# Altium integrated library Texas Instruments Interface 1394.IntLib: 47 symbols (part 12 of 17)
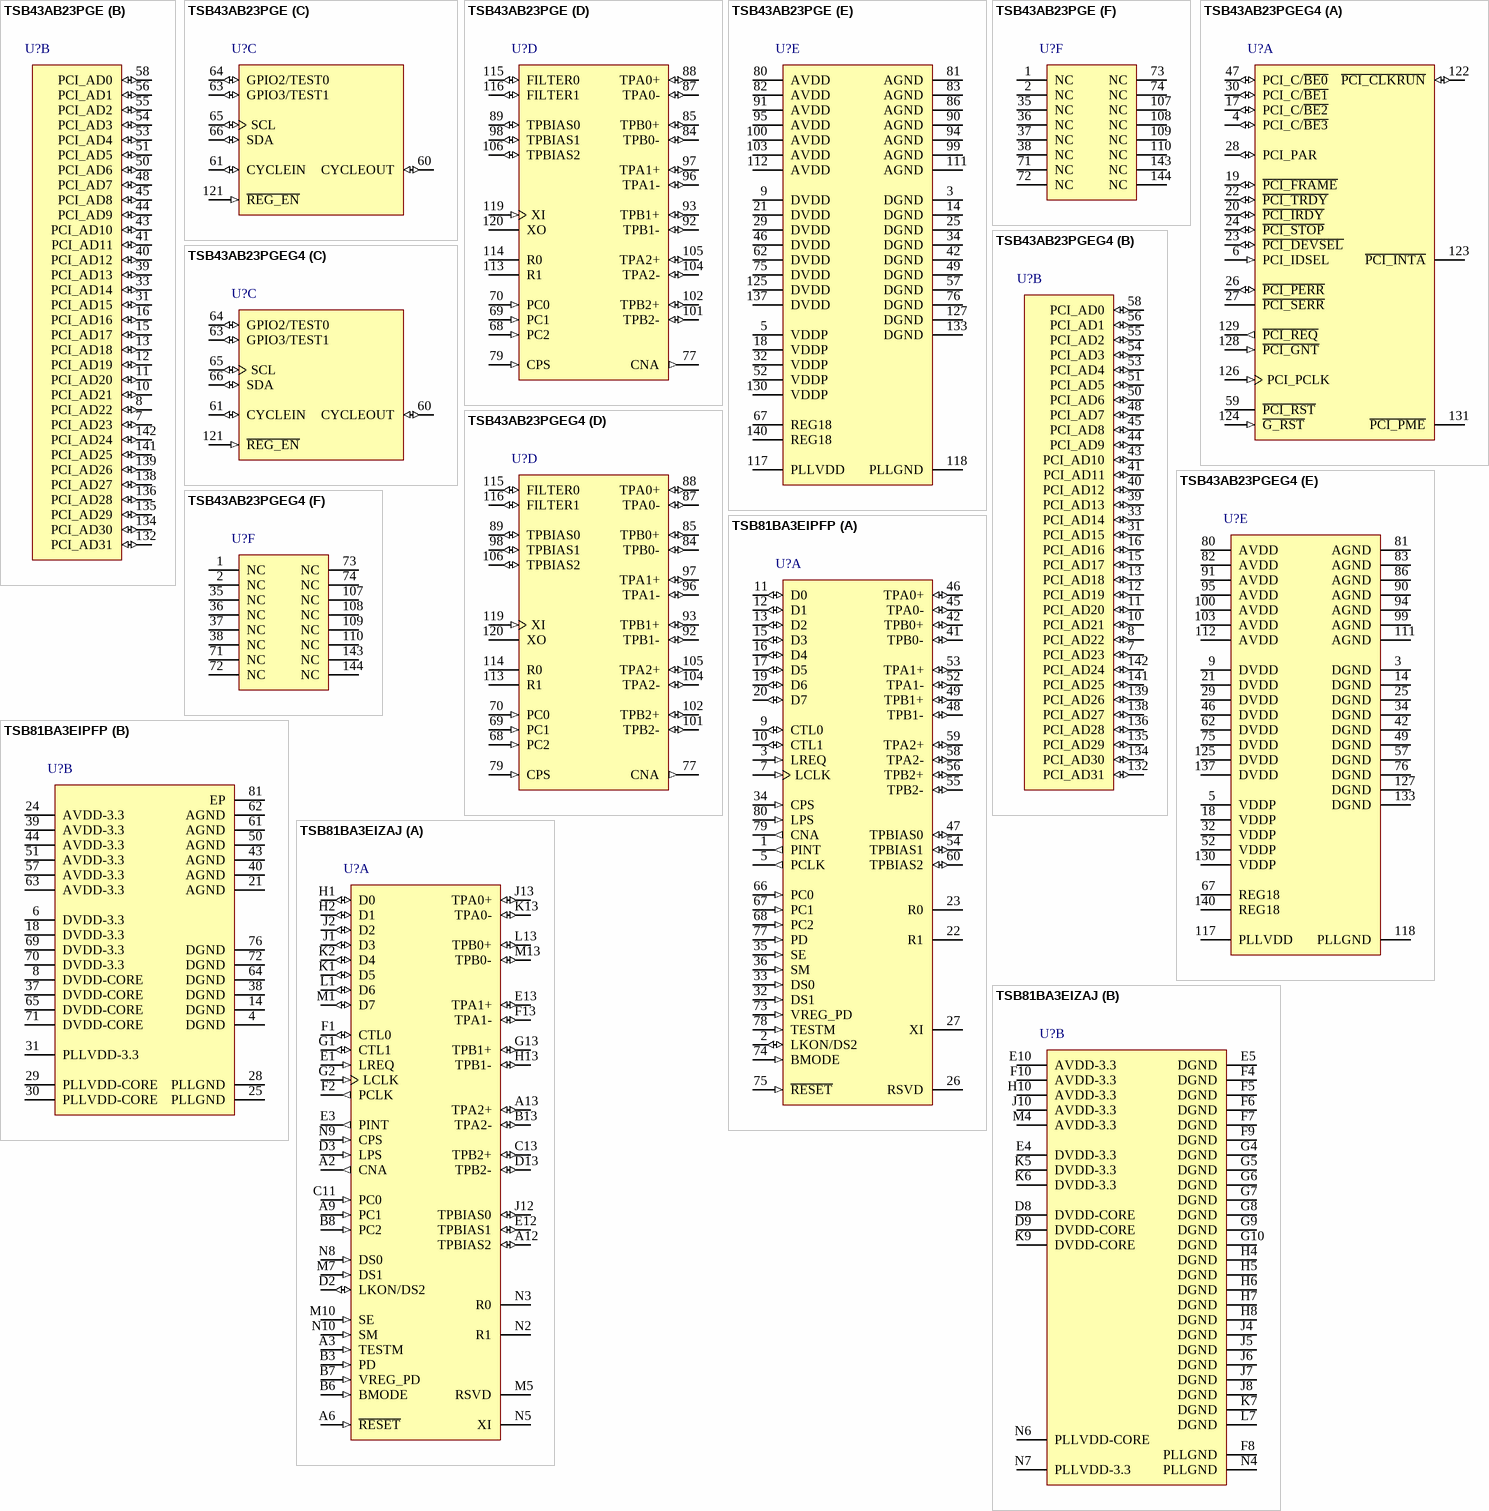
[diagram p22: symbols TSB43AB23PGE to TSB81BA3EIZAJ]

## TSB81BA3EIPFP
designator U?
800 Mbps IEEE P1394b Three-Port Cable Transceiver Arbiter, 1.8 / 3.3V, -40 to 85 degC, 80-Pin HTQFP (PFP), Green (RoHS & no Sb/Br); PartNumber: TSB81BA3EIPFP; Manufacturer: Texas Instruments; SubFamily: 1394 Physical Layer Controller; Speed(Max)(Mbps): 800; Ports: 3; Supply Voltage(s)(V): 1.8, 3.3; 1394: True; Rating: Catalog; DatasheetVersion: SLLS783A; PackageVersion: revC, Jul-2011; PackageReference: PFP80-5450X5450TP; PackageDescription: 80-Pin Plastic Quad Flat Pack PowerPAD; Mounting Technology: Surface Mount; Eco-Plan: Green (RoHS & no Sb/Br); 1394b: True; Code_JEDEC: MS-026; ComponentLink1Description: Datasheet; ComponentLink1URL: http://www.ti.com/general/docs/lit/getliterature.tsp?genericPartNumber=TSB81BA3E&fileType=pdf; ComponentLink2Description: Package Specification; ComponentLink2URL: http://www.ti.com/lit/ml/mpqf049b/mpqf049b.pdf
footprint PFP80-5450X5450TP_N (Thin QFP, 80-Leads, Body 12x12mm, Pitch 0.5mm, IPC Medium Density)
footprint PFP80-5450X5450TP_L (Thin QFP, 80-Leads, Body 12x12mm, Pitch 0.5mm, IPC High Density)
footprint PFP80-5450X5450TP_M (Thin QFP, 80-Leads, Body 12x12mm, Pitch 0.5mm, IPC Low Density)
part A pins: 1 PINT (out) "PHY interrupt. The PHY uses this output to serially transfer status and interrupt information to the link when PHY-link interface is in the 1394b mode. [see datasheet]", 2 LKON/DS2 (io) "Link-on output/Data-strobe-only input for port 2. [see datasheet]", 3 LREQ (in) "LLC request input. The LLC uses this input to initiate a service request to the TSB81BA3E. A bus holder is built into this terminal.", 5 PCLK (out) "PHY clock. Provides a 98.304-MHz clock signal, synchronized with data transfers, to the LLC when the PHY-link interface is operating in the 1394b mode (BMODE asserted). [see datasheet]", 7 LCLK (in) "Link clock. Link-provided 98.304-MHz clock signal to synchronize data transfers from link to the PHY when the PHY-link interface is in the 1394b mode. [see datasheet]", 9 CTL0 (io) "Control I/Os. These bidirectional signals control communication between the TSB81BA3E and the LLC. Bus holders are built into these terminals.", 10 CTL1 (io) "Control I/Os. These bidirectional signals control communication between the TSB81BA3E and the LLC. Bus holders are built into these terminals.", 11 D0 (io) "Data I/Os. These are bidirectional data signals between the TSB82BA3 and the LLC. Bus holders are built into these terminals.", 12 D1 (io) "Data I/Os. These are bidirectional data signals between the TSB82BA3 and the LLC. Bus holders are built into these terminals.", 13 D2 (io) "Data I/Os. These are bidirectional data signals between the TSB82BA3 and the LLC. Bus holders are built into these terminals.", 15 D3 (io) "Data I/Os. These are bidirectional data signals between the TSB82BA3 and the LLC. Bus holders are built into these terminals.", 16 D4 (io) "Data I/Os. These are bidirectional data signals between the TSB82BA3 and the LLC. Bus holders are built into these terminals.", 17 D5 (io) "Data I/Os. These are bidirectional data signals between the TSB82BA3 and the LLC. Bus holders are built into these terminals.", 19 D6 (io) "Data I/Os. These are bidirectional data signals between the TSB82BA3 and the LLC. Bus holders are built into these terminals.", 20 D7 (io) "Data I/Os. These are bidirectional data signals between the TSB82BA3 and the LLC. Bus holders are built into these terminals.", 22 R1 "Current setting resistor terminals. These terminals are connected to a precision external resistance to set the internal operating currents and cable driver output currents. [see datasheet]", 23 R0 "Current setting resistor terminals. These terminals are connected to a precision external resistance to set the internal operating currents and cable driver output currents. [see datasheet]", 26 RSVD "This terminal must normally be left unconnected. When this terminal is probed, the terminal shows a 98.304-MHz signal. [see datasheet]", 27 XI "Oscillator input. This terminal connects to a 98.304-MHz low jitter external oscillator. The XI terminal is a 1.8-V CMOS input.Oscillator jitter must be 5 ps RMS or better.If only 3. [see datasheet]", 32 DS1 (in) "Data-strobe-only mode for port 1. 1394a-only port 1 enable programming terminal. [see datasheet]", 33 DS0 (in) "Data-strobe-only mode for port 0. 1394a-only port 1 enable programming terminal. [see datasheet]", 34 CPS (in) "Cable-power status input.This terminal is normally connected to cable power through a 400-kohm resistor. [see datasheet]", 35 SE (in) "Test control input. This input is used in the manufacturing test of the TSB81BA3E. [see datasheet]", 36 SM (in) "Test control input. This input is used in the manufacturing test of the TSB81BA3E. [see datasheet]", 41 TPB0- (io) "Port-0 twisted-pair differential-signal terminals. [see datasheet]", 42 TPB0+ (io) "Port-0 twisted-pair differential-signal terminals. [see datasheet]", 45 TPA0- (io) "Port-0 twisted-pair differential-signal terminals. [see datasheet]", 46 TPA0+ (io) "Port-0 twisted-pair differential-signal terminals. [see datasheet]", 47 TPBIAS0 (io) "Twisted-pair bias output and signal detect input. This provides the 1. [see datasheet]", 48 TPB1- (io) "Port-1 twisted-pair differential-signal terminals. [see datasheet]", 49 TPB1+ (io) "Port-1 twisted-pair differential-signal terminals. [see datasheet]", 52 TPA1- (io) "Port-1 twisted-pair differential-signal terminals. [see datasheet]", 53 TPA1+ (io) "Port-1 twisted-pair differential-signal terminals. [see datasheet]", 54 TPBIAS1 (io) "Twisted-pair bias output and signal detect input. This provides the 1. [see datasheet]", 55 TPB2- (io) "Port-2 twisted-pair differential-signal terminals. [see datasheet]", 56 TPB2+ (io) "Port-2 twisted-pair differential-signal terminals. [see datasheet]", 58 TPA2- (io) "Port-2 twisted-pair differential-signal terminals. [see datasheet]", 59 TPA2+ (io) "Port-2 twisted-pair differential-signal terminals. [see datasheet]", 60 TPBIAS2 (io) "Twisted-pair bias output and signal detect input. This provides the 1. [see datasheet]", 66 PC0 (in) "Power class programming inputs. On hardware reset, these inputs set the default value of the power class indicated during self-ID. [see datasheet]", 67 PC1 (in) "Power class programming inputs. On hardware reset, these inputs set the default value of the power class indicated during self-ID. [see datasheet]", 68 PC2 (in) "Power class programming inputs. On hardware reset, these inputs set the default value of the power class indicated during self-ID. [see datasheet]", 73 VREG_PD (in) "Voltage regulator power-down input. When asserted logic high, this pin will power-down the internal 3.3-V to 1.95-V regulator. For single 3. [see datasheet]", 74 BMODE (in) "Beta-mode input. This terminal determines the PHY-link interface connection protocol. [see datasheet]", 75 ~{RESET} (in) "Logic reset input. Asserting this terminal low resets the internal logic. [see datasheet]", 77 PD (in) "Power-down input. A high on this terminal turns off all internal circuitry except the cable-active monitor circuits, which control the CNA output. [see datasheet]", 78 TESTM (in) "Test control input. This input is used in the manufacturing test of the TSB81BA3E. For normal use this terminal must be pulled high through a 1-kohm resistor to VDD.", 79 CNA (out) "Cable not active output.This terminal is asserted high when there are no ports receiving incoming bias voltage. When any port receives bias, this terminal goes low.", 80 LPS (in) "Link power status input. This terminal monitors the active/power status of the link-layer controller (LLC) and controls the state of the PHY-LLC interface. [see datasheet]"
part B pins: 4 DGND (power) "Digital circuit ground terminals. These terminals must be tied together to the low-impedance circuit board ground plane.", 6 DVDD-3.3 (power) "Digital 3.3-V circuit power terminals. A combination of high-frequency decoupling capacitors near each terminal is suggested, such as paralleled 0.1 uF and 0.001 uF. [see datasheet]", 8 DVDD-CORE (power) "Digital core circuit power terminals.A combination of high-frequency decoupling capacitors near each terminal is suggested, such as paralleled 0.1uF and 0.001uF. [see datasheet]", 14 DGND (power) "Digital circuit ground terminals. These terminals must be tied together to the low-impedance circuit board ground plane.", 18 DVDD-3.3 (power) "Digital 3.3-V circuit power terminals. A combination of high-frequency decoupling capacitors near each terminal is suggested, such as paralleled 0.1 uF and 0.001 uF. [see datasheet]", 21 AGND (power) "Analog circuit ground terminals.These terminals must be tied together to the low-impedance circuit board ground plane.", 24 AVDD-3.3 (power) "Analog circuit power terminals. A combination of high-frequency decoupling capacitors near each terminal is suggested, such as paralleled 0.1 uF and 0.001 uF. [see datasheet]", 25 PLLGND (power) "PLL circuit ground terminals. These terminals must be tied together to the low-impedance circuit board ground plane.", 28 PLLGND (power) "PLL circuit ground terminals. These terminals must be tied together to the low-impedance circuit board ground plane.", 29 PLLVDD-CORE (power) "PLL core circuit power terminals. A combination of high-frequency decoupling capacitors near each terminal is suggested, such as paralleled 0.1 uF and 0.001 uF. [see datasheet]", 30 PLLVDD-CORE (power) "PLL core circuit power terminals. A combination of high-frequency decoupling capacitors near each terminal is suggested, such as paralleled 0.1 uF and 0.001 uF. [see datasheet]", 31 PLLVDD-3.3 (power) "PLL 3.3-V circuit power terminal. A combination of high-frequency decoupling capacitors near the terminal are suggested, such as paralleled 0.1uF and 0.001uF. [see datasheet]", 37 DVDD-CORE (power) "Digital core circuit power terminals.A combination of high-frequency decoupling capacitors near each terminal is suggested, such as paralleled 0.1uF and 0.001uF. [see datasheet]", 38 DGND (power) "Digital circuit ground terminals. These terminals must be tied together to the low-impedance circuit board ground plane.", 39 AVDD-3.3 (power) "Analog circuit power terminals. A combination of high-frequency decoupling capacitors near each terminal is suggested, such as paralleled 0.1 uF and 0.001 uF. [see datasheet]", 40 AGND (power) "Analog circuit ground terminals.These terminals must be tied together to the low-impedance circuit board ground plane.", 43 AGND (power) "Analog circuit ground terminals.These terminals must be tied together to the low-impedance circuit board ground plane.", 44 AVDD-3.3 (power) "Analog circuit power terminals. A combination of high-frequency decoupling capacitors near each terminal is suggested, such as paralleled 0.1 uF and 0.001 uF. [see datasheet]", 50 AGND (power) "Analog circuit ground terminals.These terminals must be tied together to the low-impedance circuit board ground plane.", 51 AVDD-3.3 (power) "Analog circuit power terminals. A combination of high-frequency decoupling capacitors near each terminal is suggested, such as paralleled 0.1 uF and 0.001 uF. [see datasheet]", 57 AVDD-3.3 (power) "Analog circuit power terminals. A combination of high-frequency decoupling capacitors near each terminal is suggested, such as paralleled 0.1 uF and 0.001 uF. [see datasheet]", 61 AGND (power) "Analog circuit ground terminals.These terminals must be tied together to the low-impedance circuit board ground plane.", 62 AGND (power) "Analog circuit ground terminals.These terminals must be tied together to the low-impedance circuit board ground plane.", 63 AVDD-3.3 (power) "Analog circuit power terminals. A combination of high-frequency decoupling capacitors near each terminal is suggested, such as paralleled 0.1 uF and 0.001 uF. [see datasheet]", 64 DGND (power) "Digital circuit ground terminals. These terminals must be tied together to the low-impedance circuit board ground plane.", 65 DVDD-CORE (power) "Digital core circuit power terminals.A combination of high-frequency decoupling capacitors near each terminal is suggested, such as paralleled 0.1uF and 0.001uF. [see datasheet]", 69 DVDD-3.3 (power) "Digital 3.3-V circuit power terminals. A combination of high-frequency decoupling capacitors near each terminal is suggested, such as paralleled 0.1 uF and 0.001 uF. [see datasheet]", 70 DVDD-3.3 (power) "Digital 3.3-V circuit power terminals. A combination of high-frequency decoupling capacitors near each terminal is suggested, such as paralleled 0.1 uF and 0.001 uF. [see datasheet]", 71 DVDD-CORE (power) "Digital core circuit power terminals.A combination of high-frequency decoupling capacitors near each terminal is suggested, such as paralleled 0.1uF and 0.001uF. [see datasheet]", 72 DGND (power) "Digital circuit ground terminals. These terminals must be tied together to the low-impedance circuit board ground plane.", 76 DGND (power) "Digital circuit ground terminals. These terminals must be tied together to the low-impedance circuit board ground plane.", 81 EP (power) "Exposed Thermal Pad"

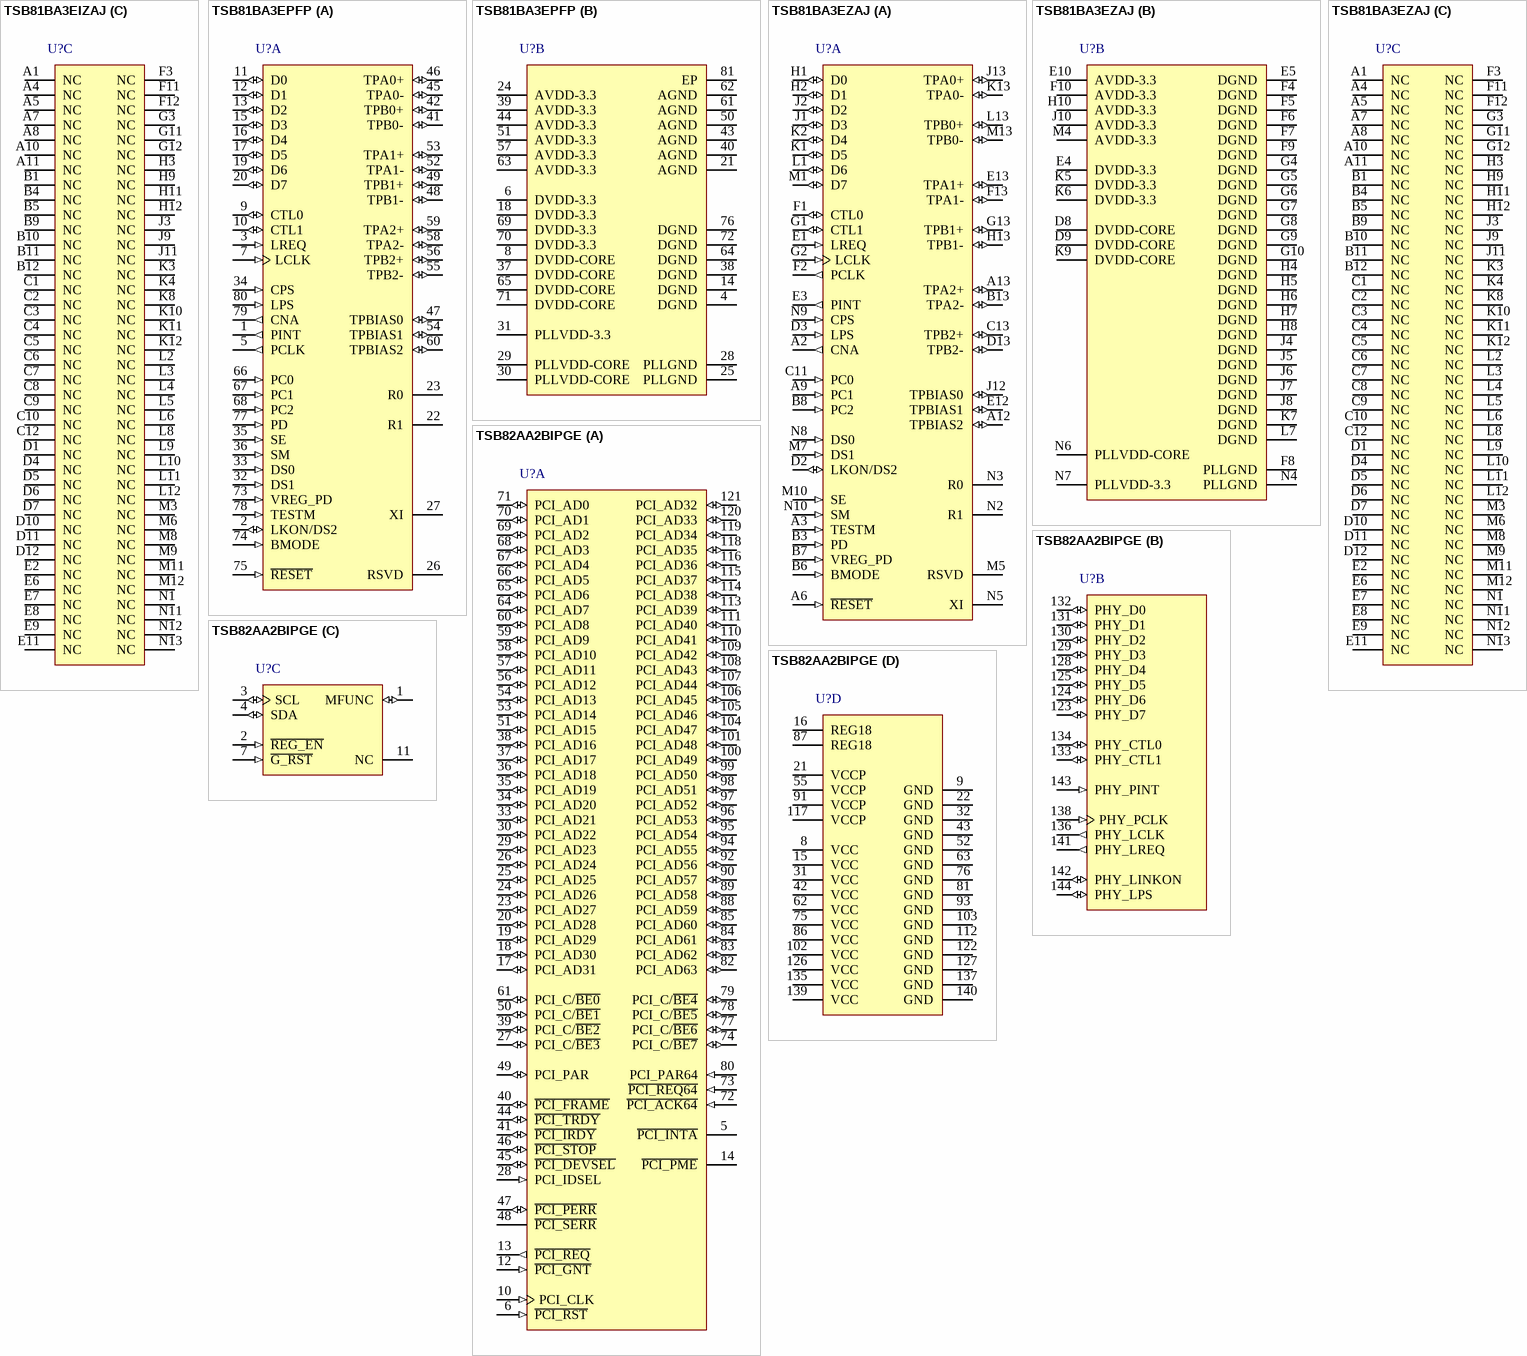
[diagram p7: symbols TSB81BA3EIZAJ to TSB82AA2BIPGE]

## TSB81BA3EIZAJ
designator U?
800 Mbps IEEE P1394b Three-Port Cable Transceiver Arbiter, 1.8 / 3.3V, -40 to 85 degC, 168-Pin NFBGA (ZAJ), Green (RoHS & no Sb/Br); PartNumber: TSB81BA3EIZAJ; Manufacturer: Texas Instruments; SubFamily: 1394 Physical Layer Controller; Speed(Max)(Mbps): 800; Ports: 3; Supply Voltage(s)(V): 1.8, 3.3; 1394: True; Rating: Catalog; DatasheetVersion: SLLS783A; PackageVersion: revD, Aug-2008; PackageReference: ZAJ168; PackageDescription: 168-Ball Plastic Ball Grid Array, 7 x 7 mm Body, 0.5 mm Pitch; Mounting Technology: Surface Mount; Eco-Plan: Green (RoHS & no Sb/Br); 1394b: True; ComponentLink1Description: Datasheet; ComponentLink1URL: http://www.ti.com/general/docs/lit/getliterature.tsp?genericPartNumber=TSB81BA3E&fileType=pdf; ComponentLink2Description: Package Specification; ComponentLink2URL: http://www.ti.com/lit/ml/mpbg233/mpbg233.pdf
footprint ZAJ168 (BGA, 168-Leads, Body 7x7mm, Pitch 0.5mm)
part A pins: A2 CNA (out) "Cable not active output.This terminal is asserted high when there are no ports receiving incoming bias voltage. When any port receives bias, this terminal goes low.", A3 TESTM (in) "Test control input. This input is used in the manufacturing test of the TSB81BA3E. For normal use this terminal must be pulled high through a 1-k ohm resistor to VDD.", A6 ~{RESET} (in) "Logic reset input. Asserting this terminal low resets the internal logic. [see datasheet]", A9 PC1 (in) "Power class programming inputs. On hardware reset, these inputs set the default value of the power class indicated during self-ID. [see datasheet]", A12 TPBIAS2 (io) "Twisted-pair bias output and signal detect input. This provides the 1. [see datasheet]", A13 TPA2+ (io) "Port-2 twisted-pair differential-signal terminals. [see datasheet]", B3 PD (in) "Power-down input. A high on this terminal turns off all internal circuitry except the cable-active monitor circuits, which control the CNA output. [see datasheet]", B6 BMODE (in) "Beta-mode input. This terminal determines the PHY-link interface connection protocol. [see datasheet]", B7 VREG_PD (in) "Voltage regulator power-down input. When asserted logic high, this pin will power-down the internal 3.3-V to 1.95-V regulator. For single 3. [see datasheet]", B8 PC2 (in) "Power class programming inputs. On hardware reset, these inputs set the default value of the power class indicated during self-ID. [see datasheet]", B13 TPA2- (io) "Port-2 twisted-pair differential-signal terminals. [see datasheet]", C11 PC0 (in) "Power class programming inputs. On hardware reset, these inputs set the default value of the power class indicated during self-ID. [see datasheet]", C13 TPB2+ (io) "Port-2 twisted-pair differential-signal terminals. [see datasheet]", D2 LKON/DS2 (io) "Link-on output/Data-strobe-only input for port 2. [see datasheet]", D3 LPS (in) "Link power status input. This terminal monitors the active/power status of the link-layer controller (LLC) and controls the state of the PHY-LLC interface. [see datasheet]", D13 TPB2- (io) "Port-2 twisted-pair differential-signal terminals. [see datasheet]", E1 LREQ (in) "LLC request input. The LLC uses this input to initiate a service request to the TSB81BA3E. A bus holder is built into this terminal.", E3 PINT (out) "PHY interrupt. The PHY uses this output to serially transfer status and interrupt information to the link when PHY-link interface is in the 1394b mode. [see datasheet]", E12 TPBIAS1 (io) "Twisted-pair bias output and signal detect input. This provides the 1. [see datasheet]", E13 TPA1+ (io) "Port-1 twisted-pair differential-signal terminals. [see datasheet]", F1 CTL0 (io) "Control I/Os. These bidirectional signals control communication between the TSB81BA3E and the LLC. Bus holders are built into these terminals.", F2 PCLK (out) "PHY clock. Provides a 98.304-MHz clock signal, synchronized with data transfers, to the LLC when the PHY-link interface is operating in the 1394b mode (BMODE asserted). [see datasheet]", F13 TPA1- (io) "Port-1 twisted-pair differential-signal terminals. [see datasheet]", G1 CTL1 (io) "Control I/Os. These bidirectional signals control communication between the TSB81BA3E and the LLC. Bus holders are built into these terminals.", G2 LCLK (in) "Link clock. Link-provided 98.304-MHz clock signal to synchronize data transfers from link to the PHY when the PHY-link interface is in the 1394b mode. [see datasheet]", G13 TPB1+ (io) "Port-1 twisted-pair differential-signal terminals. [see datasheet]", H1 D0 (io) "Data I/Os. These are bidirectional data signals between the TSB82BA3 and the LLC. Bus holders are built into these terminals.", H2 D1 (io) "Data I/Os. These are bidirectional data signals between the TSB82BA3 and the LLC. Bus holders are built into these terminals.", H13 TPB1- (io) "Port-1 twisted-pair differential-signal terminals. [see datasheet]", J1 D3 (io) "Data I/Os. These are bidirectional data signals between the TSB82BA3 and the LLC. Bus holders are built into these terminals.", J2 D2 (io) "Data I/Os. These are bidirectional data signals between the TSB82BA3 and the LLC. Bus holders are built into these terminals.", J12 TPBIAS0 (io) "Twisted-pair bias output and signal detect input. This provides the 1. [see datasheet]", J13 TPA0+ (io) "Port-0 twisted-pair differential-signal terminals. [see datasheet]", K1 D5 (io) "Data I/Os. These are bidirectional data signals between the TSB82BA3 and the LLC. Bus holders are built into these terminals.", K2 D4 (io) "Data I/Os. These are bidirectional data signals between the TSB82BA3 and the LLC. Bus holders are built into these terminals.", K13 TPA0- (io) "Port-0 twisted-pair differential-signal terminals. [see datasheet]", L1 D6 (io) "Data I/Os. These are bidirectional data signals between the TSB82BA3 and the LLC. Bus holders are built into these terminals.", L13 TPB0+ (io) "Port-0 twisted-pair differential-signal terminals. [see datasheet]", M1 D7 (io) "Data I/Os. These are bidirectional data signals between the TSB82BA3 and the LLC. Bus holders are built into these terminals.", M5 RSVD "This terminal must normally be left unconnected. When this terminal is probed, the terminal shows a 98.304-MHz signal. If this is perceived as an EMI problem, then the terminal may be pulled to ground through a 10-k ohm resistor. However, this causes an", M7 DS1 (in) "Data-strobe-only mode for port 1. 1394a-only port 1 enable programming terminal. [see datasheet]", M10 SE (in) "Test control input. This input is used in the manufacturing test of the TSB81BA3E. [see datasheet]", M13 TPB0- (io) "Port-0 twisted-pair differential-signal terminals. [see datasheet]", N2 R1 "Current setting resistor terminals. These terminals are connected to a precision external resistance to set the internal operating currents and cable driver output currents. [see datasheet]", N3 R0 "Current setting resistor terminals. These terminals are connected to a precision external resistance to set the internal operating currents and cable driver output currents. [see datasheet]", N5 XI "Oscillator input. This terminal connects to a 98.304-MHz low jitter external oscillator. The XI terminal is a 1.8-V CMOS input.Oscillator jitter must be 5 ps RMS or better.If only 3. [see datasheet]", N8 DS0 (in) "Data-strobe-only mode for port 0. 1394a-only port 1 enable programming terminal. [see datasheet]", N9 CPS (in) "Cable-power status input.This terminal is normally connected to cable power through a 400-k ohm resistor. [see datasheet]", N10 SM (in) "Test control input. This input is used in the manufacturing test of the TSB81BA3E. [see datasheet]"
part B pins: D8 DVDD-CORE (power) "Digital core circuit power terminals.A combination of high-frequency decoupling capacitors near each terminal is suggested, such as paralleled 0.1uF and 0.001uF. [see datasheet]", D9 DVDD-CORE (power) "Digital core circuit power terminals.A combination of high-frequency decoupling capacitors near each terminal is suggested, such as paralleled 0.1uF and 0.001uF. [see datasheet]", E4 DVDD-3.3 (power) "Digital 3.3-V circuit power terminals. A combination of high-frequency decoupling capacitors near each terminal is suggested, such as paralleled 0.1 uF and 0.001 uF. [see datasheet]", E5 DGND (power) "Digital circuit ground terminals. These terminals must be tied together to the low-impedance circuit board ground plane.", E10 AVDD-3.3 (power) "Analog circuit power terminals. A combination of high-frequency decoupling capacitors near each terminal is suggested, such as paralleled 0.1 uF and 0.001 uF. [see datasheet]", F4 DGND (power) "Digital circuit ground terminals. These terminals must be tied together to the low-impedance circuit board ground plane.", F5 DGND (power) "Digital circuit ground terminals. These terminals must be tied together to the low-impedance circuit board ground plane.", F6 DGND (power) "Digital circuit ground terminals. These terminals must be tied together to the low-impedance circuit board ground plane.", F7 DGND (power) "Digital circuit ground terminals. These terminals must be tied together to the low-impedance circuit board ground plane.", F8 PLLGND (power) "PLL circuit ground terminals. These terminals must be tied together to the low-impedance circuit board ground plane.", F9 DGND (power) "Digital circuit ground terminals. These terminals must be tied together to the low-impedance circuit board ground plane.", F10 AVDD-3.3 (power) "Analog circuit power terminals. A combination of high-frequency decoupling capacitors near each terminal is suggested, such as paralleled 0.1 uF and 0.001 uF. [see datasheet]", G4 DGND (power) "Digital circuit ground terminals. These terminals must be tied together to the low-impedance circuit board ground plane.", G5 DGND (power) "Digital circuit ground terminals. These terminals must be tied together to the low-impedance circuit board ground plane.", G6 DGND (power) "Digital circuit ground terminals. These terminals must be tied together to the low-impedance circuit board ground plane.", G7 DGND (power) "Digital circuit ground terminals. These terminals must be tied together to the low-impedance circuit board ground plane.", G8 DGND (power) "Digital circuit ground terminals. These terminals must be tied together to the low-impedance circuit board ground plane.", G9 DGND (power) "Digital circuit ground terminals. These terminals must be tied together to the low-impedance circuit board ground plane.", G10 DGND (power) "Digital circuit ground terminals. These terminals must be tied together to the low-impedance circuit board ground plane.", H4 DGND (power) "Digital circuit ground terminals. These terminals must be tied together to the low-impedance circuit board ground plane.", H5 DGND (power) "Digital circuit ground terminals. These terminals must be tied together to the low-impedance circuit board ground plane.", H6 DGND (power) "Digital circuit ground terminals. These terminals must be tied together to the low-impedance circuit board ground plane.", H7 DGND (power) "Digital circuit ground terminals. These terminals must be tied together to the low-impedance circuit board ground plane.", H8 DGND (power) "Digital circuit ground terminals. These terminals must be tied together to the low-impedance circuit board ground plane.", H10 AVDD-3.3 (power) "Analog circuit power terminals. A combination of high-frequency decoupling capacitors near each terminal is suggested, such as paralleled 0.1 uF and 0.001 uF. [see datasheet]", J4 DGND (power) "Digital circuit ground terminals. These terminals must be tied together to the low-impedance circuit board ground plane.", J5 DGND (power) "Digital circuit ground terminals. These terminals must be tied together to the low-impedance circuit board ground plane.", J6 DGND (power) "Digital circuit ground terminals. These terminals must be tied together to the low-impedance circuit board ground plane.", J7 DGND (power) "Digital circuit ground terminals. These terminals must be tied together to the low-impedance circuit board ground plane.", J8 DGND (power) "Digital circuit ground terminals. These terminals must be tied together to the low-impedance circuit board ground plane.", J10 AVDD-3.3 (power) "Analog circuit power terminals. A combination of high-frequency decoupling capacitors near each terminal is suggested, such as paralleled 0.1 uF and 0.001 uF. [see datasheet]", K5 DVDD-3.3 (power) "Digital 3.3-V circuit power terminals. A combination of high-frequency decoupling capacitors near each terminal is suggested, such as paralleled 0.1 uF and 0.001 uF. [see datasheet]", K6 DVDD-3.3 (power) "Digital 3.3-V circuit power terminals. A combination of high-frequency decoupling capacitors near each terminal is suggested, such as paralleled 0.1 uF and 0.001 uF. [see datasheet]", K7 DGND (power) "Digital circuit ground terminals. These terminals must be tied together to the low-impedance circuit board ground plane.", K9 DVDD-CORE (power) "Digital core circuit power terminals.A combination of high-frequency decoupling capacitors near each terminal is suggested, such as paralleled 0.1uF and 0.001uF. [see datasheet]", L7 DGND (power) "Digital circuit ground terminals. These terminals must be tied together to the low-impedance circuit board ground plane.", M4 AVDD-3.3 (power) "Analog circuit power terminals. A combination of high-frequency decoupling capacitors near each terminal is suggested, such as paralleled 0.1 uF and 0.001 uF. [see datasheet]", N4 PLLGND (power) "PLL circuit ground terminals. These terminals must be tied together to the low-impedance circuit board ground plane.", N6 PLLVDD-CORE (power) "PLL core circuit power terminals. A combination of high-frequency decoupling capacitors near each terminal is suggested, such as paralleled 0.1 uF and 0.001 uF. An additional 1-uF capacitor is required for voltage regulation. [see datasheet]", N7 PLLVDD-3.3 (power) "PLL 3.3-V circuit power terminal. A combination of high-frequency decoupling capacitors near the terminal are suggested, such as paralleled 0.1uF and 0.001uF. Lower frequency 10-uF filtering capacitors are also recommended. [see datasheet]"
part C pins: A1 NC, A4 NC, A5 NC, A7 NC, A8 NC, A10 NC, A11 NC, B1 NC, B4 NC, B5 NC, B9 NC, B10 NC, B11 NC, B12 NC, C1 NC, C2 NC, C3 NC, C4 NC, C5 NC, C6 NC, C7 NC, C8 NC, C9 NC, C10 NC, C12 NC, D1 NC, D4 NC, D5 NC, D6 NC, D7 NC, D10 NC, D11 NC, D12 NC, E2 NC, E6 NC, E7 NC, E8 NC, E9 NC, E11 NC, F3 NC, F11 NC, F12 NC, G3 NC, G11 NC, G12 NC, H3 NC, H9 NC, H11 NC, H12 NC, J3 NC, J9 NC, J11 NC, K3 NC, K4 NC, K8 NC, K10 NC, K11 NC, K12 NC, L2 NC, L3 NC, L4 NC, L5 NC, L6 NC, L8 NC, L9 NC, L10 NC, L11 NC, L12 NC, M3 NC, M6 NC, M8 NC, M9 NC, M11 NC, M12 NC, N1 NC, N11 NC, N12 NC, N13 NC

## TSB81BA3EPFP
designator U?
800 Mbps IEEE P1394b Three-Port Cable Transceiver Arbiter, 1.8 / 3.3V, 0 to 70 degC, 80-Pin HTQFP (PFP), Green (RoHS & no Sb/Br); PartNumber: TSB81BA3EPFP; Manufacturer: Texas Instruments; SubFamily: 1394 Physical Layer Controller; Speed(Max)(Mbps): 800; Ports: 3; Supply Voltage(s)(V): 1.8, 3.3; 1394: True; Rating: Catalog; DatasheetVersion: SLLS783A; PackageVersion: revC, Jul-2011; PackageReference: PFP80-5450X5450TP; PackageDescription: 80-Pin Plastic Quad Flat Pack PowerPAD; Mounting Technology: Surface Mount; Eco-Plan: Green (RoHS & no Sb/Br); 1394b: True; Code_JEDEC: MS-026; ComponentLink1Description: Datasheet; ComponentLink1URL: http://www.ti.com/general/docs/lit/getliterature.tsp?genericPartNumber=TSB81BA3E&fileType=pdf; ComponentLink2Description: Package Specification; ComponentLink2URL: http://www.ti.com/lit/ml/mpqf049b/mpqf049b.pdf
footprint PFP80-5450X5450TP_N (Thin QFP, 80-Leads, Body 12x12mm, Pitch 0.5mm, IPC Medium Density)
footprint PFP80-5450X5450TP_L (Thin QFP, 80-Leads, Body 12x12mm, Pitch 0.5mm, IPC High Density)
footprint PFP80-5450X5450TP_M (Thin QFP, 80-Leads, Body 12x12mm, Pitch 0.5mm, IPC Low Density)
part A pins: 1 PINT (out) "PHY interrupt. The PHY uses this output to serially transfer status and interrupt information to the link when PHY-link interface is in the 1394b mode. [see datasheet]", 2 LKON/DS2 (io) "Link-on output/Data-strobe-only input for port 2. [see datasheet]", 3 LREQ (in) "LLC request input. The LLC uses this input to initiate a service request to the TSB81BA3E. A bus holder is built into this terminal.", 5 PCLK (out) "PHY clock. Provides a 98.304-MHz clock signal, synchronized with data transfers, to the LLC when the PHY-link interface is operating in the 1394b mode (BMODE asserted). [see datasheet]", 7 LCLK (in) "Link clock. Link-provided 98.304-MHz clock signal to synchronize data transfers from link to the PHY when the PHY-link interface is in the 1394b mode. [see datasheet]", 9 CTL0 (io) "Control I/Os. These bidirectional signals control communication between the TSB81BA3E and the LLC. Bus holders are built into these terminals.", 10 CTL1 (io) "Control I/Os. These bidirectional signals control communication between the TSB81BA3E and the LLC. Bus holders are built into these terminals.", 11 D0 (io) "Data I/Os. These are bidirectional data signals between the TSB82BA3 and the LLC. Bus holders are built into these terminals.", 12 D1 (io) "Data I/Os. These are bidirectional data signals between the TSB82BA3 and the LLC. Bus holders are built into these terminals.", 13 D2 (io) "Data I/Os. These are bidirectional data signals between the TSB82BA3 and the LLC. Bus holders are built into these terminals.", 15 D3 (io) "Data I/Os. These are bidirectional data signals between the TSB82BA3 and the LLC. Bus holders are built into these terminals.", 16 D4 (io) "Data I/Os. These are bidirectional data signals between the TSB82BA3 and the LLC. Bus holders are built into these terminals.", 17 D5 (io) "Data I/Os. These are bidirectional data signals between the TSB82BA3 and the LLC. Bus holders are built into these terminals.", 19 D6 (io) "Data I/Os. These are bidirectional data signals between the TSB82BA3 and the LLC. Bus holders are built into these terminals.", 20 D7 (io) "Data I/Os. These are bidirectional data signals between the TSB82BA3 and the LLC. Bus holders are built into these terminals.", 22 R1 "Current setting resistor terminals. These terminals are connected to a precision external resistance to set the internal operating currents and cable driver output currents. [see datasheet]", 23 R0 "Current setting resistor terminals. These terminals are connected to a precision external resistance to set the internal operating currents and cable driver output currents. [see datasheet]", 26 RSVD "This terminal must normally be left unconnected. When this terminal is probed, the terminal shows a 98.304-MHz signal. [see datasheet]", 27 XI "Oscillator input. This terminal connects to a 98.304-MHz low jitter external oscillator. The XI terminal is a 1.8-V CMOS input.Oscillator jitter must be 5 ps RMS or better.If only 3. [see datasheet]", 32 DS1 (in) "Data-strobe-only mode for port 1. 1394a-only port 1 enable programming terminal. [see datasheet]", 33 DS0 (in) "Data-strobe-only mode for port 0. 1394a-only port 1 enable programming terminal. [see datasheet]", 34 CPS (in) "Cable-power status input.This terminal is normally connected to cable power through a 400-kohm resistor. [see datasheet]", 35 SE (in) "Test control input. This input is used in the manufacturing test of the TSB81BA3E. [see datasheet]", 36 SM (in) "Test control input. This input is used in the manufacturing test of the TSB81BA3E. [see datasheet]", 41 TPB0- (io) "Port-0 twisted-pair differential-signal terminals. [see datasheet]", 42 TPB0+ (io) "Port-0 twisted-pair differential-signal terminals. [see datasheet]", 45 TPA0- (io) "Port-0 twisted-pair differential-signal terminals. [see datasheet]", 46 TPA0+ (io) "Port-0 twisted-pair differential-signal terminals. [see datasheet]", 47 TPBIAS0 (io) "Twisted-pair bias output and signal detect input. This provides the 1. [see datasheet]", 48 TPB1- (io) "Port-1 twisted-pair differential-signal terminals. [see datasheet]", 49 TPB1+ (io) "Port-1 twisted-pair differential-signal terminals. [see datasheet]", 52 TPA1- (io) "Port-1 twisted-pair differential-signal terminals. [see datasheet]", 53 TPA1+ (io) "Port-1 twisted-pair differential-signal terminals. [see datasheet]", 54 TPBIAS1 (io) "Twisted-pair bias output and signal detect input. This provides the 1. [see datasheet]", 55 TPB2- (io) "Port-2 twisted-pair differential-signal terminals. [see datasheet]", 56 TPB2+ (io) "Port-2 twisted-pair differential-signal terminals. [see datasheet]", 58 TPA2- (io) "Port-2 twisted-pair differential-signal terminals. [see datasheet]", 59 TPA2+ (io) "Port-2 twisted-pair differential-signal terminals. [see datasheet]", 60 TPBIAS2 (io) "Twisted-pair bias output and signal detect input. This provides the 1. [see datasheet]", 66 PC0 (in) "Power class programming inputs. On hardware reset, these inputs set the default value of the power class indicated during self-ID. [see datasheet]", 67 PC1 (in) "Power class programming inputs. On hardware reset, these inputs set the default value of the power class indicated during self-ID. [see datasheet]", 68 PC2 (in) "Power class programming inputs. On hardware reset, these inputs set the default value of the power class indicated during self-ID. [see datasheet]", 73 VREG_PD (in) "Voltage regulator power-down input. When asserted logic high, this pin will power-down the internal 3.3-V to 1.95-V regulator. For single 3. [see datasheet]", 74 BMODE (in) "Beta-mode input. This terminal determines the PHY-link interface connection protocol. [see datasheet]", 75 ~{RESET} (in) "Logic reset input. Asserting this terminal low resets the internal logic. [see datasheet]", 77 PD (in) "Power-down input. A high on this terminal turns off all internal circuitry except the cable-active monitor circuits, which control the CNA output. [see datasheet]", 78 TESTM (in) "Test control input. This input is used in the manufacturing test of the TSB81BA3E. For normal use this terminal must be pulled high through a 1-kohm resistor to VDD.", 79 CNA (out) "Cable not active output.This terminal is asserted high when there are no ports receiving incoming bias voltage. When any port receives bias, this terminal goes low.", 80 LPS (in) "Link power status input. This terminal monitors the active/power status of the link-layer controller (LLC) and controls the state of the PHY-LLC interface. [see datasheet]"
part B pins: 4 DGND (power) "Digital circuit ground terminals. These terminals must be tied together to the low-impedance circuit board ground plane.", 6 DVDD-3.3 (power) "Digital 3.3-V circuit power terminals. A combination of high-frequency decoupling capacitors near each terminal is suggested, such as paralleled 0.1 uF and 0.001 uF. [see datasheet]", 8 DVDD-CORE (power) "Digital core circuit power terminals.A combination of high-frequency decoupling capacitors near each terminal is suggested, such as paralleled 0.1uF and 0.001uF. [see datasheet]", 14 DGND (power) "Digital circuit ground terminals. These terminals must be tied together to the low-impedance circuit board ground plane.", 18 DVDD-3.3 (power) "Digital 3.3-V circuit power terminals. A combination of high-frequency decoupling capacitors near each terminal is suggested, such as paralleled 0.1 uF and 0.001 uF. [see datasheet]", 21 AGND (power) "Analog circuit ground terminals.These terminals must be tied together to the low-impedance circuit board ground plane.", 24 AVDD-3.3 (power) "Analog circuit power terminals. A combination of high-frequency decoupling capacitors near each terminal is suggested, such as paralleled 0.1 uF and 0.001 uF. [see datasheet]", 25 PLLGND (power) "PLL circuit ground terminals. These terminals must be tied together to the low-impedance circuit board ground plane.", 28 PLLGND (power) "PLL circuit ground terminals. These terminals must be tied together to the low-impedance circuit board ground plane.", 29 PLLVDD-CORE (power) "PLL core circuit power terminals. A combination of high-frequency decoupling capacitors near each terminal is suggested, such as paralleled 0.1 uF and 0.001 uF. [see datasheet]", 30 PLLVDD-CORE (power) "PLL core circuit power terminals. A combination of high-frequency decoupling capacitors near each terminal is suggested, such as paralleled 0.1 uF and 0.001 uF. [see datasheet]", 31 PLLVDD-3.3 (power) "PLL 3.3-V circuit power terminal. A combination of high-frequency decoupling capacitors near the terminal are suggested, such as paralleled 0.1uF and 0.001uF. [see datasheet]", 37 DVDD-CORE (power) "Digital core circuit power terminals.A combination of high-frequency decoupling capacitors near each terminal is suggested, such as paralleled 0.1uF and 0.001uF. [see datasheet]", 38 DGND (power) "Digital circuit ground terminals. These terminals must be tied together to the low-impedance circuit board ground plane.", 39 AVDD-3.3 (power) "Analog circuit power terminals. A combination of high-frequency decoupling capacitors near each terminal is suggested, such as paralleled 0.1 uF and 0.001 uF. [see datasheet]", 40 AGND (power) "Analog circuit ground terminals.These terminals must be tied together to the low-impedance circuit board ground plane.", 43 AGND (power) "Analog circuit ground terminals.These terminals must be tied together to the low-impedance circuit board ground plane.", 44 AVDD-3.3 (power) "Analog circuit power terminals. A combination of high-frequency decoupling capacitors near each terminal is suggested, such as paralleled 0.1 uF and 0.001 uF. [see datasheet]", 50 AGND (power) "Analog circuit ground terminals.These terminals must be tied together to the low-impedance circuit board ground plane.", 51 AVDD-3.3 (power) "Analog circuit power terminals. A combination of high-frequency decoupling capacitors near each terminal is suggested, such as paralleled 0.1 uF and 0.001 uF. [see datasheet]", 57 AVDD-3.3 (power) "Analog circuit power terminals. A combination of high-frequency decoupling capacitors near each terminal is suggested, such as paralleled 0.1 uF and 0.001 uF. [see datasheet]", 61 AGND (power) "Analog circuit ground terminals.These terminals must be tied together to the low-impedance circuit board ground plane.", 62 AGND (power) "Analog circuit ground terminals.These terminals must be tied together to the low-impedance circuit board ground plane.", 63 AVDD-3.3 (power) "Analog circuit power terminals. A combination of high-frequency decoupling capacitors near each terminal is suggested, such as paralleled 0.1 uF and 0.001 uF. [see datasheet]", 64 DGND (power) "Digital circuit ground terminals. These terminals must be tied together to the low-impedance circuit board ground plane.", 65 DVDD-CORE (power) "Digital core circuit power terminals.A combination of high-frequency decoupling capacitors near each terminal is suggested, such as paralleled 0.1uF and 0.001uF. [see datasheet]", 69 DVDD-3.3 (power) "Digital 3.3-V circuit power terminals. A combination of high-frequency decoupling capacitors near each terminal is suggested, such as paralleled 0.1 uF and 0.001 uF. [see datasheet]", 70 DVDD-3.3 (power) "Digital 3.3-V circuit power terminals. A combination of high-frequency decoupling capacitors near each terminal is suggested, such as paralleled 0.1 uF and 0.001 uF. [see datasheet]", 71 DVDD-CORE (power) "Digital core circuit power terminals.A combination of high-frequency decoupling capacitors near each terminal is suggested, such as paralleled 0.1uF and 0.001uF. [see datasheet]", 72 DGND (power) "Digital circuit ground terminals. These terminals must be tied together to the low-impedance circuit board ground plane.", 76 DGND (power) "Digital circuit ground terminals. These terminals must be tied together to the low-impedance circuit board ground plane.", 81 EP (power) "Exposed Thermal Pad"